# Altium footprint library HANDS-FREE-PCBLIB-V2.0.PcbLib: 236 footprints (part 4 of 16)
Each footprint in its own frame and in the unit in brackets; x right, y up, seen from the top. Pads: shape width x height; smd on the part's side, far side on the other; paste and mask are expansions set on the pad; w line width, h text height; cw(c..) or ccw(c..) is an arc to the next point about the centre after c.
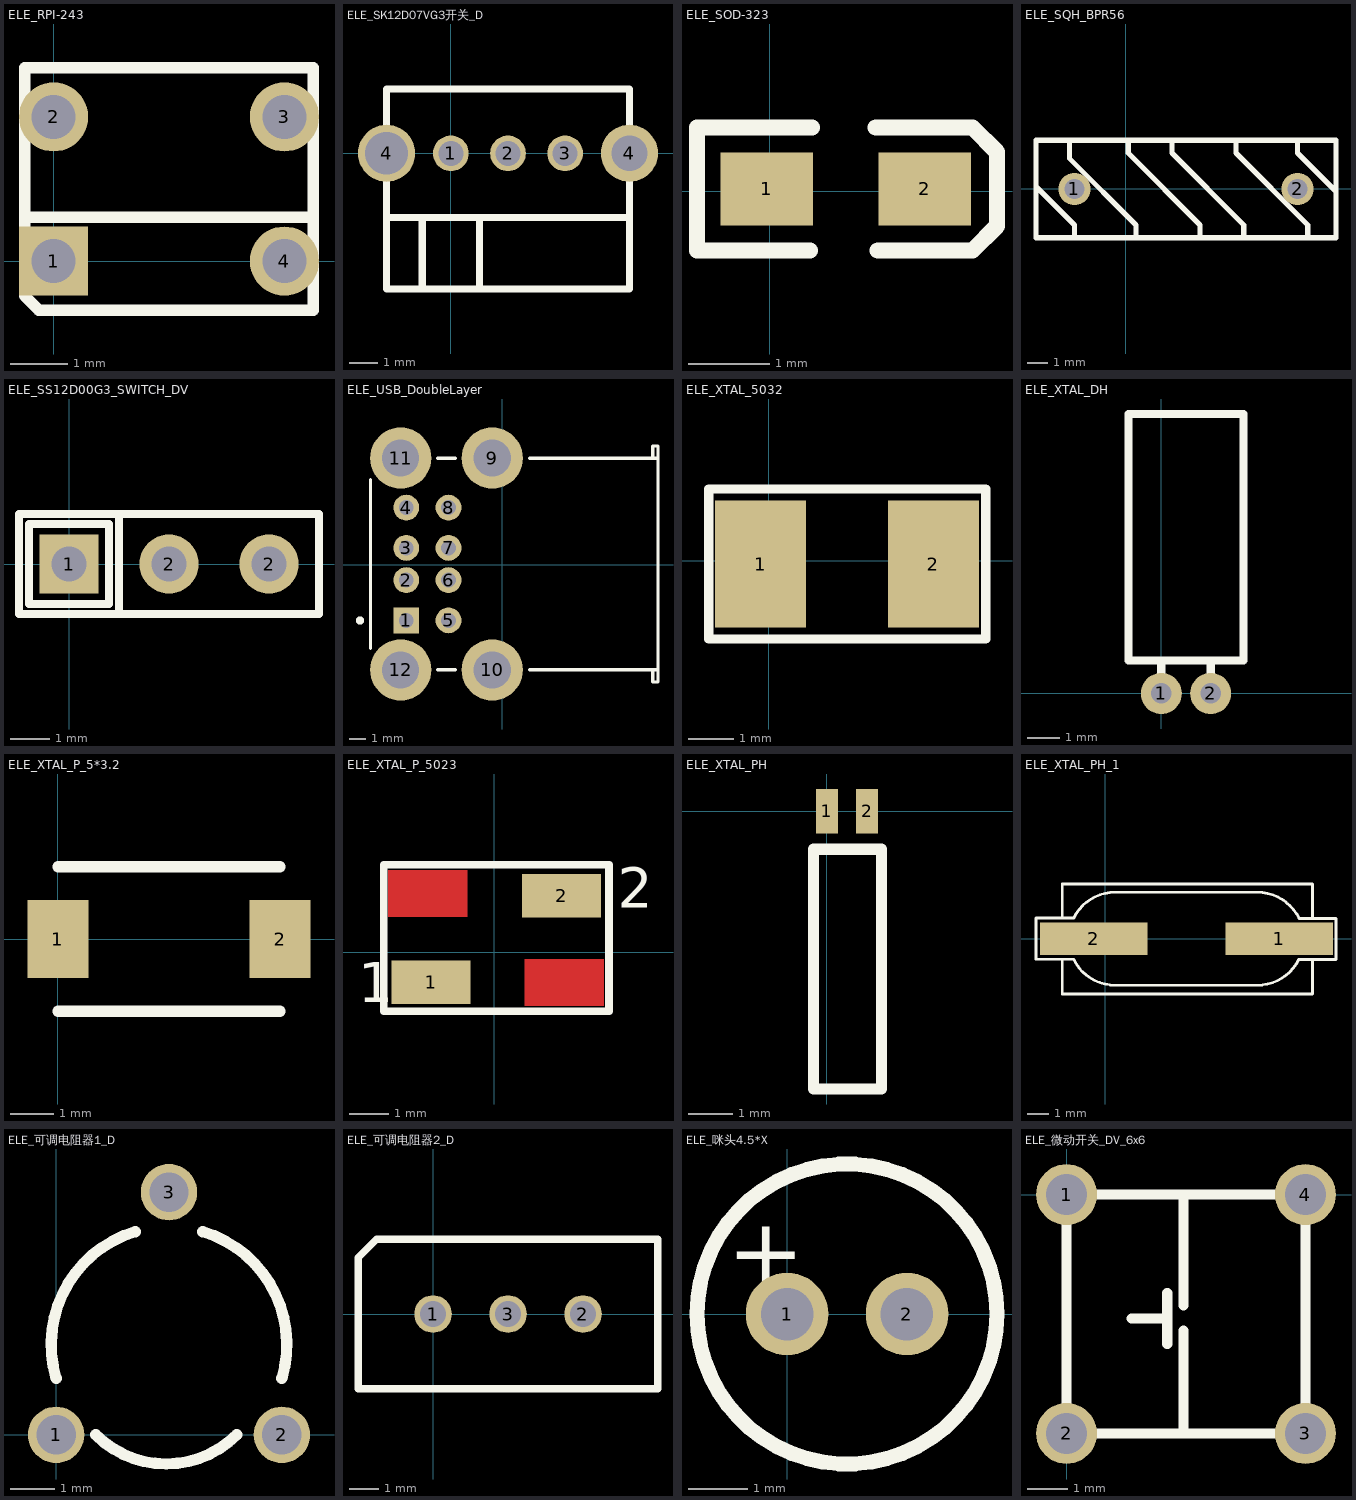
[diagram p3: the footprints below, top view; thin cyan lines are the x and y axes]

## ELE_RPI-243 [mm]
pads (4):
  rect 1.2x1.2 hole 0.762: 1(0,0)
  round 1.2 hole 0.762: 2(0,2.5) 3(4,2.5) 4(4,0)
Top Overlay:
  lines w0.2: -0.5,0.762 4.5,0.762 ; 4,-0.1 4,0 ; 4,2.5 4,2.6 ; -0.5,-0.604 -0.5,1.25 -0.5,3.35 4.5,3.35 4.5,-0.85 -0.254,-0.85 -0.5,-0.604

## ELE_SK12D07VG3开关_D [mil]
pads (5):
  round 50 hole 35: 1(0,0) 2(80,0) 3(160,0)
  round 80 hole 60: 4(-90,0)
  round 80 hole 50: 4(250,0)
Top Overlay:
  lines w10: -40,-90 -40,-190 ; 40,-90 40,-190 ; -90,-90 -90,-190 -40,-190 ; -90,-90 250,-90 ; -90,-90 -90,0 -90,90 250,90 250,0 250,-90 ; -40,-190 40,-190 ; 40,-190 250,-190 250,-90

## ELE_SOD-323 [mil]
pads (2):
  rect 45x35.43 smd: 1(-1.46,1) 2(75.46,1)
Top Overlay:
  lines w7.87: 19.54,-29 -35.46,-29 -35.46,31 20.54,31 ; 51.54,31 98.54,31 110.54,19 110.54,-17 98.54,-29 52.54,-29

## ELE_SQH_BPR56 [mm]
pads (2):
  round 1.6 hole 1: 1(-2.54,0) 2(8.509,0)
Top Overlay:
  lines w0.254: -2.794,2.286 -2.794,1.778 -2.794,1.524 0.508,-1.778 0.508,-2.413 ; 0.127,2.413 0.127,1.778 3.683,-1.778 3.683,-2.413 ; 2.286,2.413 2.286,1.778 5.842,-1.778 5.842,-2.413 ; 5.461,2.413 5.461,1.778 9.017,-1.778 9.017,-2.413 ; 10.414,-0.127 8.509,1.778 8.509,2.413 ; -4.445,1.778 -4.445,2.413 -2.54,2.413 8.509,2.413 ; -4.445,1.778 -4.445,0.127 -2.54,-1.778 -2.54,-2.413 ; -4.445,1.778 -4.445,0 -4.445,-2.413 -2.54,-2.413 ; -2.54,-2.413 8.509,-2.413 10.414,-2.413 10.414,0 10.414,2.413 8.509,2.413

## ELE_SS12D00G3_SWITCH_DV [mm] "Connector; Header; 3 Position; Right Angle"
pads (3):
  rect 1.5x1.5 hole 0.9: 1(0,0)
  round 1.5 hole 0.9: 2(2.54,0) 2(5.08,0)
Top Overlay:
  lines w0.2: 1.27,-1.27 1.27,1.27 ; -1.27,-1.27 -1.27,1.27 6.35,1.27 6.35,-1.27 -1.27,-1.27 ; -1.016,-1.016 1.016,-1.016 1.016,1.016 -1.016,1.016 -1.016,-1.016

## ELE_USB_DoubleLayer [mm]
height 1.1
pads (12):
  rect 1.6x1.6 hole 0.92: 1(-5.965,-3.466)
  round 1.6 hole 0.92: 2(-5.965,-0.966) 3(-5.965,1.034) 4(-5.965,3.534) 5(-3.345,-3.466) 6(-3.345,-0.966) 7(-3.345,1.034) 8(-3.345,3.534)
  round 3.8 hole 2.3: 9(-0.635,6.604) 10(-0.635,-6.536) 11(-6.315,6.604) 12(-6.315,-6.536)
Top Overlay:
  circle w0.25: c-8.835,-3.466 r0.125
  lines w0.2: -8.185,-5.196 -8.185,5.264 ; -4.015,-6.531 -2.935,-6.531 ; -4.015,6.599 -2.935,6.599 ; 1.675,-6.531 9.645,-6.531 ; 1.675,6.599 9.645,6.599 ; 9.325,-6.531 9.325,-7.281 9.645,-7.281 9.645,-6.531 ; 9.325,6.599 9.325,7.349 9.645,7.349 9.645,6.599 ; 9.645,-6.531 9.645,6.599

## ELE_XTAL_5032 [mm]
pads (2):
  rect 2x2.8 smd: 1(-0.178,-0.076) 2(3.622,-0.076)
Top Overlay:
  lines w0.203: -1.321,-1.727 4.775,-1.727 4.775,1.575 -1.321,1.575 -1.321,-1.727

## ELE_XTAL_DH [mil] "32767"
height 196.85
pads (2):
  round 50 hole 25: 1(0,0) 2(60,0)
Top Overlay:
  lines w10: 0,20 0,40 ; 60,20 60,40 ; -40,40 -40,340 100,340 100,40 -40,40

## ELE_XTAL_P_5*3.2 [mil]
pads (2):
  rect 55x70 smd: 1(0,0) 2(200,0)
Top Overlay:
  lines w10: 0,-65 200,-65 ; 0,65 200,65

## ELE_XTAL_P_5023 [mil]
pads (2):
  rect 78.74x43.31 smd: 1(-63,-30) 2(67,56)
Top Layer:
  rectangle: -106,35 -27,82
  rectangle: 30,-54 109,-7
Top Overlay:
  lines w7.87: -110.35,-59 -110.35,-28.4 -110.35,34.59 -110.35,87 114.06,87 114.06,-59 -110.35,-59
  text "1" at -136,-50 h40
  text "2" at 123,44 h40
Top Solder:
  rectangle: -106,35 -27,82
  rectangle: 30,-54 109,-7

## ELE_XTAL_PH [mil]
pads (2):
  rect 20x40 smd: 1(0,0) 2(36,0)
Top Overlay:
  lines w10: -12,-249 49,-249 49,-34 -12,-34 -12,-249

## ELE_XTAL_PH_1 [mm]
height 1.6
pads (2):
  rect 5x1.5 smd: 1(8.077,0) 2(-0.533,0)
Top Overlay:
  lines w0.127: -2.007,-0.955 -2.007,-2.565 9.627,-2.565 9.627,-0.966 ; -2.007,0.966 -2.007,2.54 9.627,2.54 9.627,0.945 ; -3.226,-0.955 -2.667,-0.955 -2.564,-0.955 -1.479,-0.955 ccw(c0.457,0) 0.457,-2.159 7.061,-2.159 ccw(c7.061,0) 8.992,-0.966 10.185,-0.966 10.719,-0.966 10.719,0.945 10.185,0.945 9.002,0.945 ccw(c7.061,0) 7.061,2.159 0.457,2.159 ccw(c0.457,0) -1.474,0.966 -2.564,0.966 -2.667,0.966 -3.226,0.966 -3.226,-0.955

## ELE_可调电阻器1_D [mil]
pads (3):
  round 50 hole 35: 1(0,0) 2(200,0) 3(100,215)
Top Overlay:
  lines w10: 0,50 cw(c100,80) 70,180 ; 35,0 ccw(c97.5,62.5) 160,0 ; 130,180 cw(c100,80) 200,50

## ELE_可调电阻器2_D [mil]
pads (3):
  round 50 hole 35: 1(0,0) 2(200,0) 3(100,0)
Top Overlay:
  lines w10: -100,-100 -100,0 -100,75 -75,100 0,100 200,100 300,100 300,0 300,-100 200,-100 0,-100 -100,-100

## ELE_咪头4.5*X [mil]
pads (2):
  round 55 hole 35: 1(0,0) 2(80,0)
Top Overlay:
  circle w10: c40,0 r100
  text "+" at -40,20 h45

## ELE_微动开关_DV_6x6 [mil]
pads (4):
  round 60 hole 40: 1(0,0) 2(0,-235) 3(235,-235) 4(235,0)
Top Overlay:
  lines w10: 64,-122 99,-122 ; 99,-147 99,-97 ; 115,-233 115,-134 ; 115,-109 115,0 ; 0,-235 0,0 235,0 235,-235 0,-235